# Altium footprint library HEADER_M_2x4_2.54.PcbLib: 1 footprints
Each footprint in its own frame and in the unit in brackets; x right, y up, seen from the top. Pads: shape width x height; smd on the part's side, far side on the other; paste and mask are expansions set on the pad; w line width, h text height; cw(c..) or ccw(c..) is an arc to the next point about the centre after c.
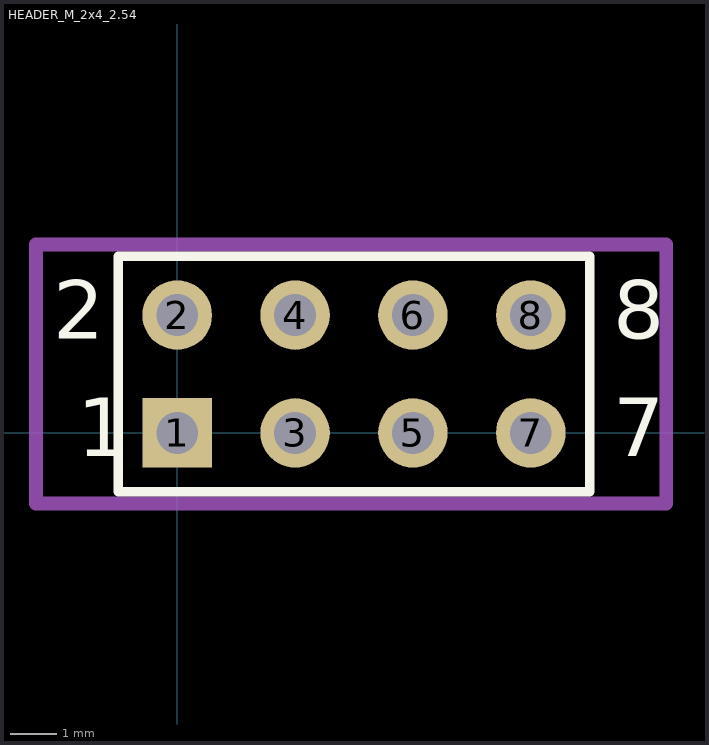
[diagram p0: the footprint, top view; thin cyan lines are the x and y axes]

## HEADER_M_2x4_2.54 [mm] "Connector; Header; 4x2 Position; Male"
pads (8):
  rect 1.5x1.5 hole 0.9: 1(0,0)
  round 1.5 hole 0.9: 2(0,2.54) 3(2.54,0) 4(2.54,2.54) 5(5.08,0) 6(5.08,2.54) 7(7.62,0) 8(7.62,2.54)
Top Overlay:
  lines w0.2: -1.27,-1.27 8.89,-1.27 8.89,3.81 -1.27,3.81 -1.27,-1.27
  text "2" at -2.667,2.032 h1.27
  text "1" at -2.159,-0.508 h1.27
  text "7" at 9.398,-0.508 h1.27
  text "8" at 9.398,2.032 h1.27
Top Assembly:
  lines w0.1: -1.27,-1.27 8.89,-1.27 8.89,3.81 -1.27,3.81 -1.27,-1.27
Top Courtyard:
  lines w0.3: -3.048,-1.524 10.541,-1.524 10.541,4.064 -3.048,4.064 -3.048,-1.524
3D body "male.stp": height 8.5, standoff -3, extent -1.27,-1.27 8.89,3.81